# Altium footprint library Sky_PCBLIB.PcbLib: 7 footprints
Each footprint in its own frame and in the unit in brackets; x right, y up, seen from the top. Pads: shape width x height; smd on the part's side, far side on the other; paste and mask are expansions set on the pad; w line width, h text height; cw(c..) or ccw(c..) is an arc to the next point about the centre after c.
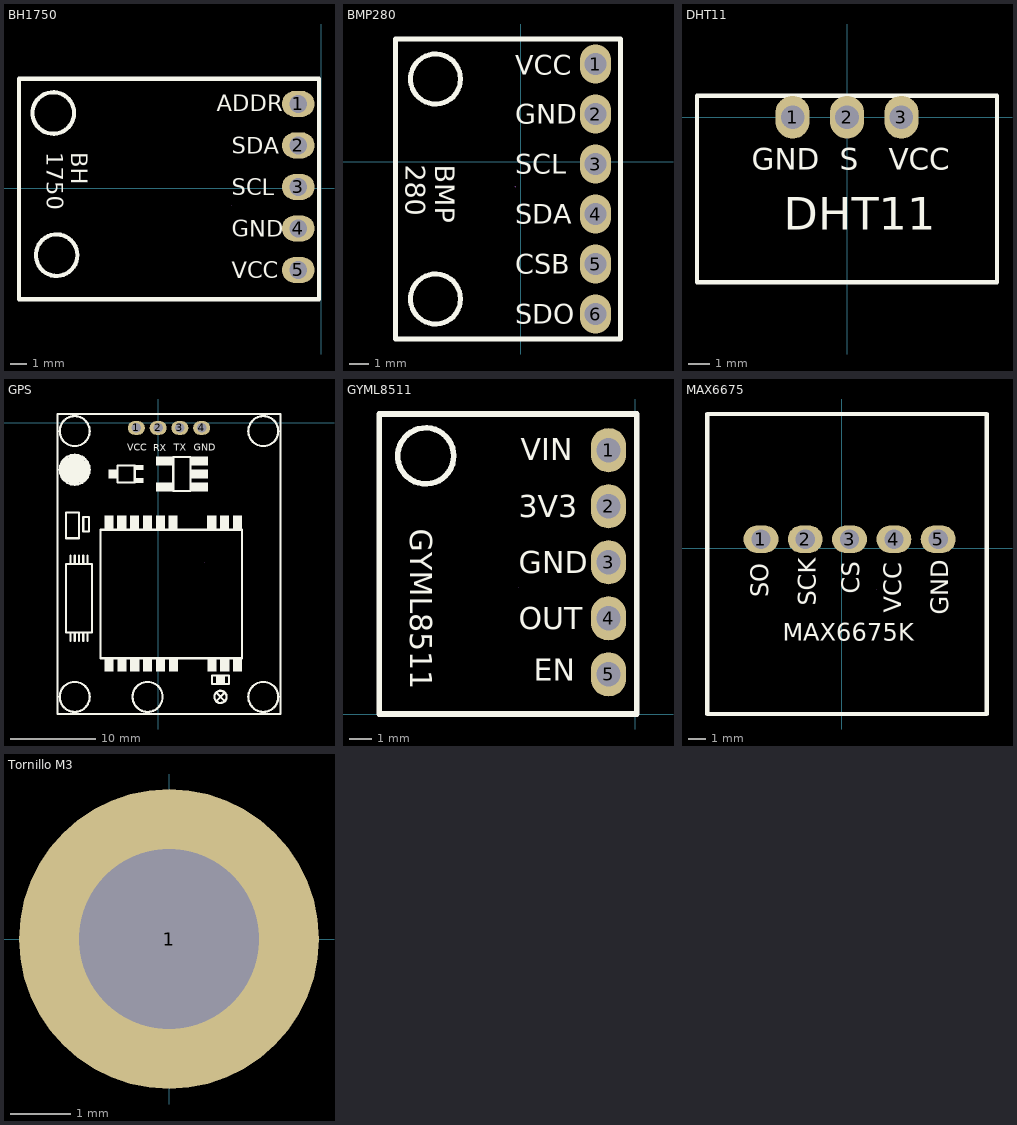
[diagram p0: the footprints below, top view; thin cyan lines are the x and y axes]

## BH1750 [mm]
pads (5):
  oval 2x1.6 hole 1.1 paste-2539.97 mask+0.051: 1(-1.413,5.159) 2(-1.413,2.619) 3(-1.413,0.079) 4(-1.413,-2.461) 5(-1.413,-5.001)
Top Overlay:
  circle w0.254: c-16.4,4.6 r1.27
  circle w0.254: c-16.2,-4.1 r1.27
  lines w0.254: -18.5,-6.8 -18.5,6.7 -0.143,6.7 -0.143,-6.8 -18.5,-6.8
  text "ADDR" at -6.397,4.703 h1
  text "SDA" at -5.477,2.119 h1
  text "SCL" at -5.477,-0.421 h1
  text "GND" at -5.477,-2.961 h1
  text "VCC" at -5.477,-5.501 h1
  text "BH / 1750" at -16.8,2.2 h1
Top Courtyard:
  lines w0.003: -5.477,-1.064 -5.477,-1.064
3D body "BH1750_with_connector.STEP": height 4.91, standoff -6.77, extent -19,-6.892 -0.235,7.2

## BMP280 [mm]
pads (6):
  oval 1.6x2 hole 1.1 paste-2539.97 mask+0.051: 1(3.787,4.959) 2(3.787,2.419) 3(3.787,-0.121) 4(3.787,-2.661) 5(3.787,-5.201) 6(3.787,-7.741)
Top Overlay:
  circle w0.254: c-4.341,-6.979 r1.27
  circle w0.254: c-4.341,4.197 r1.27
  lines w0.254: -6.373,-9.011 -6.373,6.229 5.057,6.229 5.057,-9.011 -6.373,-9.011
  text "BMP / 280" at -5.857,-0.159 h1
  text "SDO" at -0.277,-8.241 h1
  text "CSB" at -0.277,-5.701 h1
  text "SDA" at -0.277,-3.161 h1
  text "SCL" at -0.277,-0.621 h1
  text "GND" at -0.277,1.919 h1
  text "VCC" at -0.277,4.421 h1
Top Courtyard:
  lines w0.003: -0.277,-1.264 -0.277,-1.264
3D body "Sensor Bme280-3.3 De Presión Atmosférica Bmp280.stp": height 5.3, standoff -4.5, extent -6.3,-9 5.2,5.8

## DHT11 [mm]
pads (3):
  oval 1.6x2 hole 1.1 paste-2539.97 mask+0: 1(-2.54,0) 2(0,0) 3(2.54,0)
Top Overlay:
  lines w0.2: -7,-7.7 7,-7.7 7,1 -7,1 -7,-7.7
  text "GND" at -4.446,-2.446 h1
  text "S" at -0.346,-2.446 h1
  text "VCC" at 1.954,-2.446 h1
  text "DHT11" at -2.946,-5.246 h1.52
Top Component Center:
  lines w0.1: 2.04,0 3.04,0 ; 2.54,-0.5 2.54,0.5
3D body "KY-015.step": height 25.09, standoff -2.61, extent -8.2,-7.45 7.8,1.05

## GPS [mm]
pads (4):
  oval 2x1.6 hole 1.1 paste-2539.97 mask+0.254: 1(-2.583,-0.589) 2(-0.043,-0.589) 3(2.497,-0.589) 4(5.037,-0.589)
Top Overlay:
  drawing of 84 lines, arcs and shapes, not listed
  text "VCC" at -3.672,-3.235 h0.8
  text "RX" at -0.598,-3.289 h0.8
  text "TX" at 1.802,-3.239 h0.8
  text "GND" at 4.103,-3.26 h0.8
Top Courtyard:
  lines w0.003: 5.422,-16.337 5.422,-16.337
3D body "GY-NEO6MV2.step": height 4.33, standoff -8, extent -11.54,-34.5 14.54,1.1

## GYML8511 [mm]
pads (5):
  oval 1.6x2 hole 1.1 paste-2539.97 mask+0.051: 1(-1.213,11.959) 2(-1.213,9.419) 3(-1.213,6.879) 4(-1.213,4.339) 5(-1.213,1.799)
Top Overlay:
  circle w0.254: c-9.5,11.7 r1.27
  lines w0.254: -11.6,0 0.057,0 0.057,13.6 -11.6,13.6 -11.6,0
  text "EN" at -4.597,1.503 h1
  text "VIN" at -5.197,11.503 h1
  text "OUT" at -5.277,3.839 h1
  text "GND" at -5.277,6.379 h1
  text "3V3" at -5.277,8.919 h1
  text "GYML8511" at -10.2,8.4 h1
Top Courtyard:
  lines w0.003: -5.277,5.736 -5.277,5.736

## MAX6675 [mm]
pads (5):
  oval 2x1.6 hole 1.1 paste-2539.97 mask+0.102: 1(-4.633,0.519) 2(-2.093,0.519) 3(0.447,0.519) 4(2.987,0.519) 5(5.527,0.519)
Top Overlay:
  lines w0.254: -7.7,-9.5 8.3,-9.5 8.3,7.7 -7.7,7.7 -7.7,-9.5
  text "SO" at -4.203,-2.797 h1
  text "CS" at 0.997,-2.597 h1
  text "SCK" at -1.503,-3.297 h1
  text "VCC" at 3.397,-3.697 h1
  text "GND" at 6.097,-3.797 h1
  text "MAX6675K" at -3.397,-5.297 h1
Top Courtyard:
  lines w0.003: 1.971,-2.335 1.971,-2.334
3D body "MAX6675 K type thermokoppel PCBA, header angle top.stp": height 32.39, standoff -5.63, extent -7.55,-9.5 8.15,7.5

## Tornillo M3 [mm]
pads (1):
  round 5 hole 3: 1(0,0)